# EAGLE library part PIXART (library zz-upenn 2)
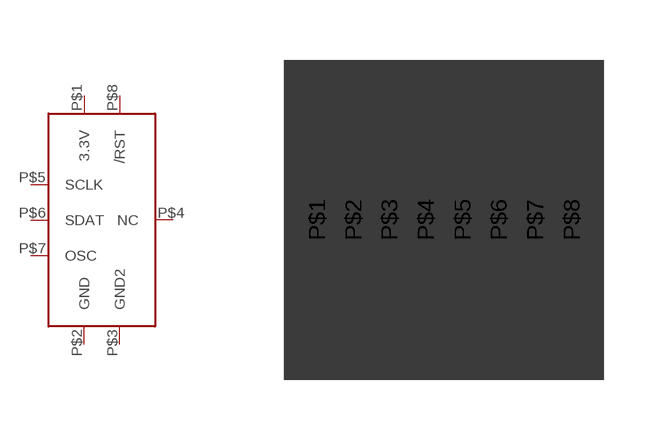
[diagram p24: symbol with the pads of PIXART; footprint PIXART]

Designator prefix -

## PIXART  [PIXART]
P$1  3.3V
P$2  GND
P$3  GND2
P$4  NC
P$5  SCLK
P$6  SDAT
P$7  OSC
P$8  /RST

## Footprint PIXART (pad centres in mm)
smd 0.597 x 1.849: P$1 -3.17,0; P$2 -2.263,0; P$3 -1.361,0; P$4 -0.45,0; P$5 0.47,0; P$6 1.375,0; P$7 2.287,0; P$8 3.2,0